# EAGLE library part MCP3008 (library MCP3008)
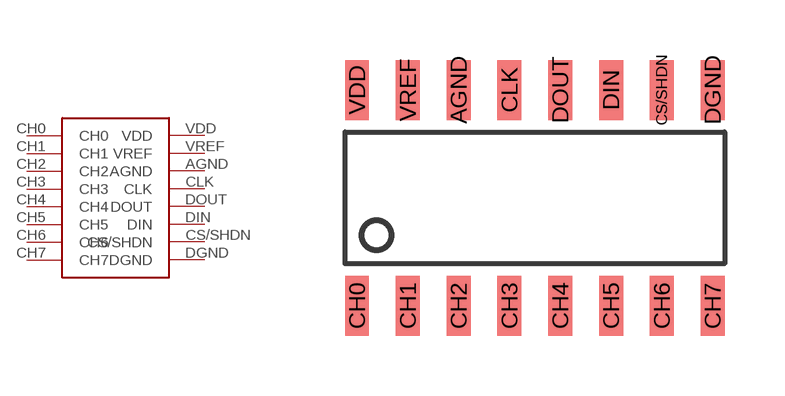
[diagram p0: symbol with the pads of MCP3008; footprint MCP3008]

Designator prefix -

## MCP3008  [MCP3008]
AGND  AGND
CH0  CH0
CH1  CH1
CH2  CH2
CH3  CH3
CH4  CH4
CH5  CH5
CH6  CH6
CH7  CH7
CLK  CLK
CS/SHDN  CS/SHDN
DGND  DGND
DIN  DIN
DOUT  DOUT
VDD  VDD
VREF  VREF

## Footprint MCP3008 (pad centres in mm)
smd 0.6 x 1.5: AGND -1.905,2.7; CH0 -4.445,-2.7; CH1 -3.175,-2.7; CH2 -1.905,-2.7; CH3 -0.635,-2.7; CH4 0.635,-2.7; CH5 1.905,-2.7; CH6 3.175,-2.7; CH7 4.445,-2.7; CLK -0.635,2.7; CS/SHDN 3.175,2.7; DGND 4.445,2.7; DIN 1.905,2.7; DOUT 0.635,2.7; VDD -4.445,2.7; VREF -3.175,2.7